# EAGLE library part HTST-105-01-L-DV-P-TR (library con-custom)
10 Position, .100" High-Temp Shrouded Terminal Strip, Cable Mate Source: Datasheet <http://suddendocs.samtec.com/prints/htst-1xx-01-xx-dv-xx-xx-mkt.pdf>
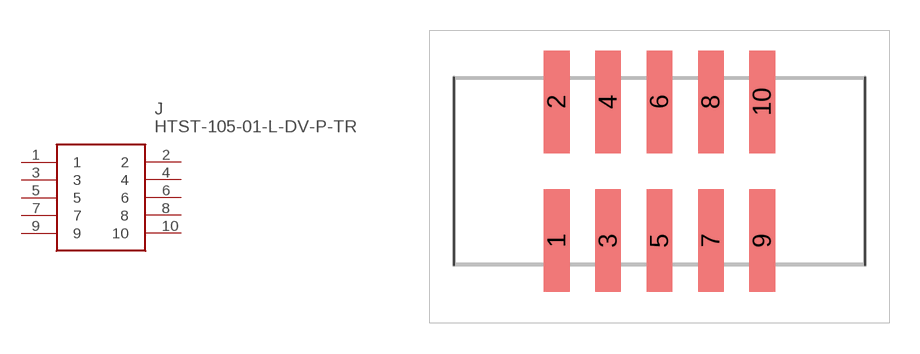
[diagram p3: symbol with the pads of HTST-105-01-YY-DV-P-TR; footprint HTST-105-01-YY-DV-P-TR]

Designator prefix J

## HTST-105-01-L-DV-P-TR (ARROW_PART_NUMBER: HTST-105-01-L-DV-P-TR; ARROW_PRICE-STOCK: https://www.arrow.com/en/products/htst-105-01-l-dv-p-tr/samtec?region=nac; DESCRIPTION: 10 Position, .100&quot; High-Temp Shrouded Terminal Strip, Cable Mate; HEIGHT: mm; MANUFACTURER_NAME: SAMTEC; MANUFACTURER_PART_NUMBER: HTST-105-01-L-DV-P-TR; MOUSER_PART_NUMBER: 200-HTST10501LDVPTR; MOUSER_PRICE-STOCK: https://www.mouser.co.uk/ProductDetail/Samtec/HTST-105-01-L-DV-P-TR?qs=Cqqh%252BS766wn71LugaM%2F57Q%3D%3D)  [HTST-105-01-YY-DV-P-TR]
1  1
2  2
3  3
4  4
5  5
6  6
7  7
8  8
9  9
10  10

## Footprint HTST-105-01-YY-DV-P-TR (pad centres in mm)
HTST-105-01-YY-DV-P-TR
smd 1.27 x 5.08: 1 -5.08,-3.43; 2 -5.08,3.43; 3 -2.54,-3.43; 4 -2.54,3.43; 5 0,-3.43; 6 0,3.43; 7 2.54,-3.43; 8 2.54,3.43; 9 5.08,-3.43; 10 5.08,3.43